# Altium footprint library MECHaniParts.PcbLib: 30 footprints (part 1 of 2)
Each footprint in its own frame and in the unit in brackets; x right, y up, seen from the top. Pads: shape width x height; smd on the part's side, far side on the other; paste and mask are expansions set on the pad; w line width, h text height; cw(c..) or ccw(c..) is an arc to the next point about the centre after c.
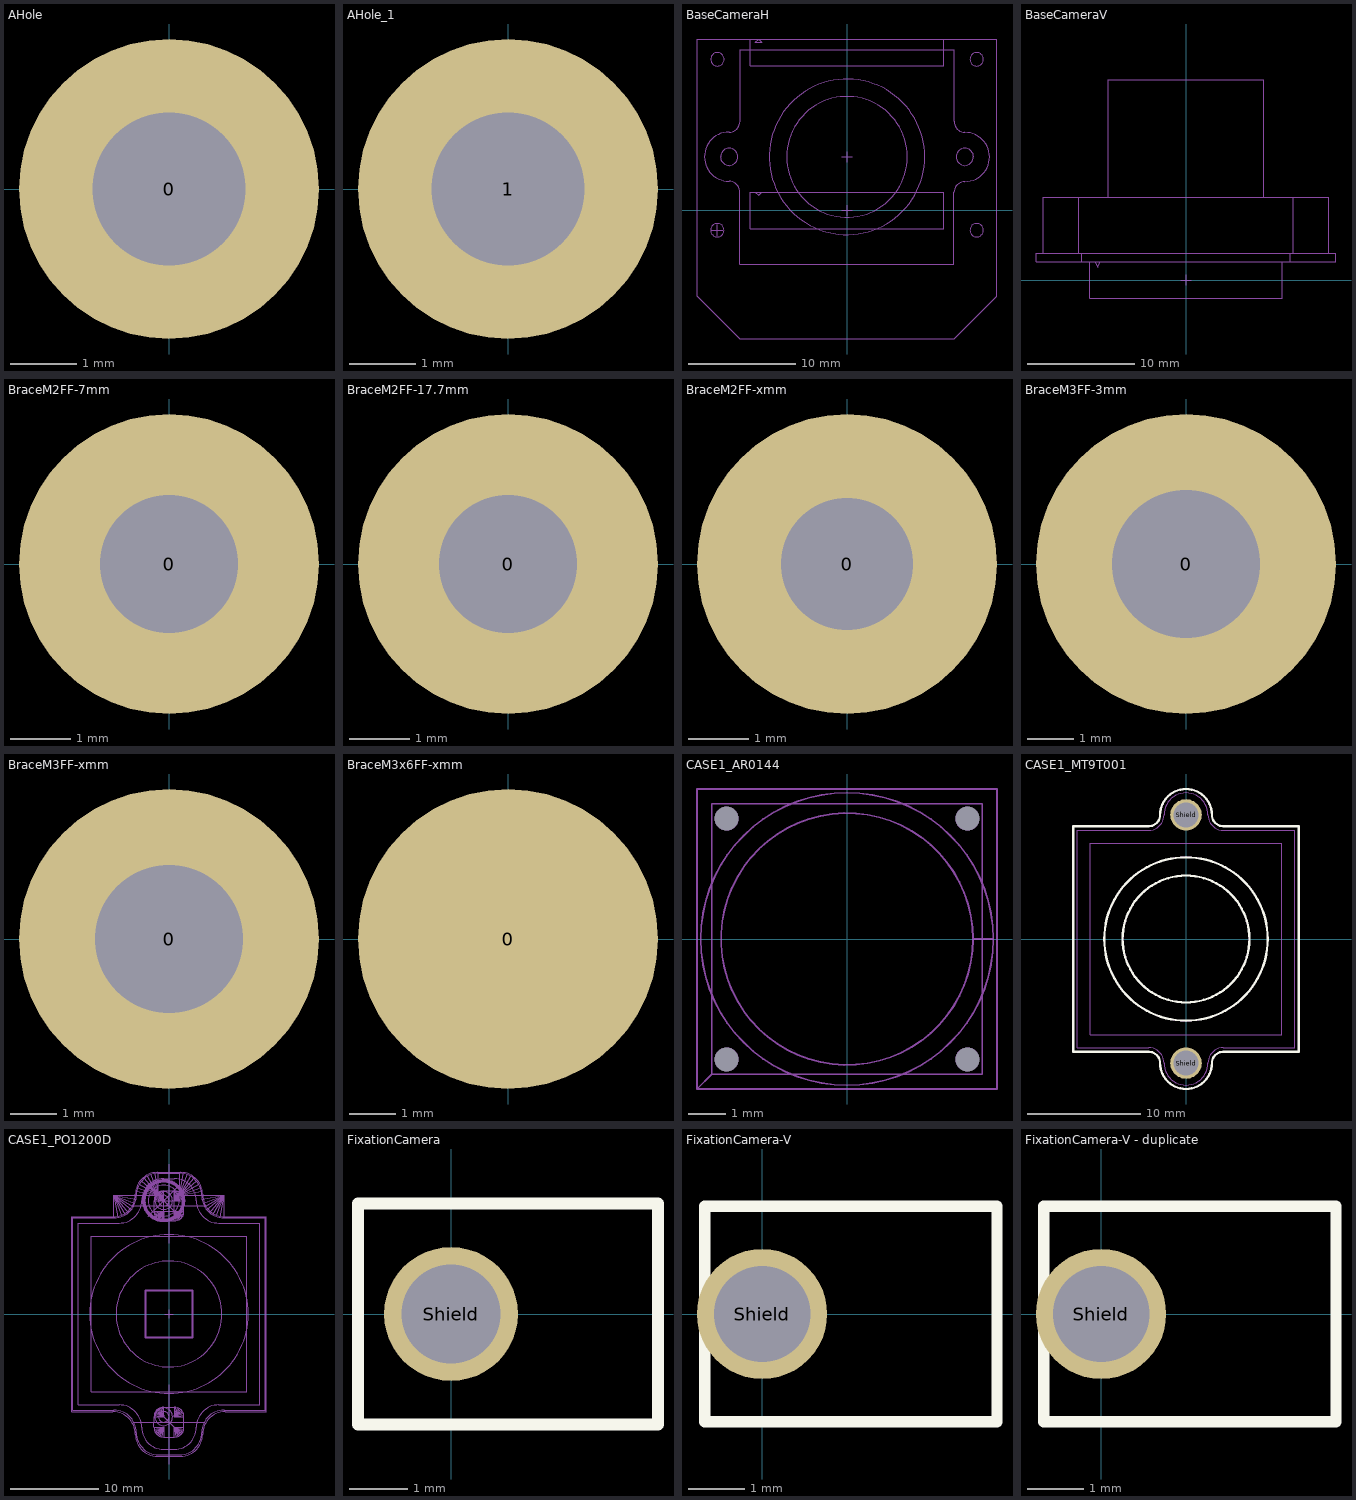
[diagram p0: the footprints below, top view; thin cyan lines are the x and y axes]

## AHole [mm] "Hole : all parameters will be defined in the PCB"
pads (1):
  round 4.5 / inner round 4.5 / far side round 2.7 hole 2.3: 0(0,0)
3D body: height 0, standoff 0, extent -0.3,-0.3 0.3,0.3

## AHole_1 [mm] "Hole : all parameters will be defined in the PCB; pin number 1 instead of 0"
pads (1):
  round 4.5 / inner round 4.5 / far side round 2.7 hole 2.3: 1(0,0)
3D body: height 0, standoff 0, extent -0.3,-0.3 0.3,0.3

## BaseCameraH [mm] "MT9T001 Micron Camera with optic on the BaseCamera pcb, horizontal use"
height 16.2
Note:
  circle w0.1: c0,5 r7.261
  circle w0.1: c0,5 r5.637
  lines w0.1: -13.311,5 cw(c-11,5) -11,7.311 ; -13.3,5 ccw(c-11.009,5.009) -11,2.717 cw(c-11.009,1.709) -10,1.7 -10,-5 9.966,-5 9.983,-4.983 9.983,1.7 cw(c10.994,1.686) 11.009,2.698 ; -12.6,-1.845 -12.1,-1.845 ; -12.1,-2.345 -12.1,-1.845 ; -12.1,-1.345 -12.1,-1.845 ; -11.81,5 ccw(c-11.005,5.005) -11,4.2 ; -11.8,5 cw(c-10.998,5.005) -11.003,5.807 cw(c-11.002,4.998) -10.193,5 ; -11.6,-1.845 -12.1,-1.845 ; -11.009,7.302 ccw(c-10.994,8.314) -9.983,8.3 -9.983,14.983 -9.966,15 10,15 10,8.3 ccw(c11.009,8.291) 11,7.283 cw(c11.009,4.991) 13.3,5 ; -11,4.193 ccw(c-11.003,4.997) -10.2,5 ; -8.555,1.715 -8.255,1.415 -7.955,1.715 ; -0.5,0 0,0 ; -0.5,5 0,5 ; 0,-0.5 0,0 ; 0,0.5 0,0 ; 0,4.5 0,5 ; 0,5.5 0,5 ; 0.5,0 0,0 ; 0.5,5 0,5 ; 10.193,5 ccw(c11.002,5.002) 11.003,4.193 ccw(c10.998,4.995) 11.8,5 ; 10.2,5 cw(c11.003,5.003) 11,5.807 ; 11,2.689 ccw(c11,5) 13.311,5 ; 11,5.8 cw(c11.005,4.995) 11.81,5 ; -14,-8 -14,16 14,16 14,-8 10,-12 -10,-12 -14,-8 ; -12.725,-1.845 cw(c-12.1,-1.845) -12.1,-1.22 cw(c-12.1,-1.845) -11.475,-1.845 cw(c-12.1,-1.845) -12.1,-2.47 cw(c-12.1,-1.845) -12.725,-1.845 ; -12.718,14.1 ccw(c-12.093,14.1) -12.093,13.475 ccw(c-12.093,14.1) -11.468,14.1 ccw(c-12.093,14.1) -12.093,14.725 ccw(c-12.093,14.1) -12.718,14.1 ; -9.015,-1.715 -9.015,1.715 9.015,1.715 9.015,-1.715 -9.015,-1.715 ; -9.015,13.486 -9.015,15.996 9.015,15.996 9.015,13.486 -9.015,13.486 ; -8.555,15.696 -8.255,15.996 -7.955,15.696 -8.555,15.696 ; 11.475,-1.845 ccw(c12.1,-1.845) 12.1,-2.47 ccw(c12.1,-1.845) 12.725,-1.845 ccw(c12.1,-1.845) 12.1,-1.22 ccw(c12.1,-1.845) 11.475,-1.845 ; 11.475,14.1 cw(c12.1,14.1) 12.1,14.725 cw(c12.1,14.1) 12.725,14.1 cw(c12.1,14.1) 12.1,13.475 cw(c12.1,14.1) 11.475,14.1
3D body "BaseCameraWithoutSocket.step": height 22.17, standoff 0.32, extent -14,-12 14,17.906

## BaseCameraV [mm] "MT9T001 Micron Camera with optic on the BaseCamera pcb, vertical use"
height 16.2
Note:
  lines w0.1: -13.311,2.516 -13.311,7.716 13.311,7.716 13.311,2.516 ; -10,2.516 -10,7.716 ; -9.75,1.715 -9.75,2.516 ; -9,1.715 -9,-1.715 9,-1.715 9,1.715 ; -8.5,1.715 -8.25,1.215 -8,1.715 ; -7.26,7.716 -7.26,18.716 7.25,18.716 ; 7.26,7.716 7.26,18.716 ; 9.75,1.715 9.75,2.516 ; 10,2.516 10,7.716 ; -14,1.715 -14,2.516 14,2.516 14,1.715 -14,1.715
TopCourtyard:
  lines w0.1: -0.5,0 0,0 ; 0,-0.5 0,0 ; 0,0.5 0,0 ; 0.5,0 0,0
3D body "BaseCameraWithoutSocket.step": height 30.25, standoff 0.34, extent -14,-3.14 14,18.716

## BraceM2FF-7mm [mm]
height 7
pads (1):
  round 5 hole 2.3: 0(0,0)
3D body: height 7, standoff 0, extent -2.5,-2.165 2.5,2.165

## BraceM2FF-17.7mm [mm]
height 17.7
pads (1):
  round 5 hole 2.3: 0(0,0)
3D body: height 17.7, standoff 0, extent -2.5,-2.165 2.5,2.165

## BraceM2FF-xmm [mm] "Brace M2 FF - x mm (default 5mm). Adjust the heigth by editing the 3D body"
height 5
pads (1):
  round 5 / inner round 5 / far side round 2.6 hole 2.2: 0(0,0)
3D body: height 7, standoff 0, extent -2.5,-2.165 2.5,2.165

## BraceM3FF-3mm [mm] "Brace M3 FF - 3 mm"
height 3
pads (1):
  round 6.5 / inner round 6.5 / far side round 3.6 hole 3.2: 0(0,0)
3D body: height 3, standoff 0, extent -2.887,-2.5 2.887,2.5

## BraceM3FF-xmm [mm] "Brace M3 FF - x mm (default 5mm). Adjust the heigth by editing the 3D body"
height 5
pads (1):
  round 6.5 / inner round 6.5 / far side round 3.6 hole 3.2: 0(0,0)
3D body: height 3, standoff 0, extent -2.887,-2.5 2.887,2.5

## BraceM3x6FF-xmm [mm] "Cylindrical 6mm Brace M3 FF - x mm (default 10mm). Adjust the heigth by editing the 3D body"
height 10
pads (1):
  round 6.5 smd: 0(0,0)
3D body "EntretoiseM3x10FF.STEP": height 10, standoff 0, extent -3,-3 3,3

## CASE1_AR0144 [mm] "Case for AR0144 OnSemi Camera"
height 16.2
pads (4):
  round 0 hole 0.65 unplated mask+0.35: H11(-3.25,-3.25) H11(-3.25,3.25) H11(3.25,-3.25) H11(3.25,3.25)
TopBody:
  circle w0.05: c-3.25,3.25 r0.3
  circle w0.05: c3.25,3.25 r0.3
  circle w0.05: c-3.25,-3.25 r0.3
  circle w0.05: c3.25,-3.25 r0.3
  lines w0.05: -4.05,-4.05 -3.65,-3.65 ; -4.05,-4.05 4.05,-4.05 4.05,4.05 -4.05,4.05 -4.05,-4.05 ; -3.65,-3.65 3.65,-3.65 3.65,3.65 -3.65,3.65 -3.65,-3.65
TopCourtyard:
  circle w0.05: c0,0 r3.95
  circle w0.05: c0,0 r3.4
  lines w0.05: 3.4,0 3.95,0 ; 4.05,-4.05 -4.05,-4.05 -4.05,4.05 4.05,4.05
3D body: height 2, standoff 0, extent -4.049,-4.049 4.049,4.049
3D body: height 3.7, standoff 1.3, extent -3.949,-3.949 3.949,3.949
3D body: height 2, standoff 1.3, extent -4.049,-4.049 4.049,4.049
3D body: height 2, standoff -0.8, extent -3.549,2.951 -2.951,3.549
3D body: height 2, standoff -0.8, extent -3.549,-3.549 -2.951,-2.951
3D body: height 2, standoff -0.8, extent 2.951,2.951 3.549,3.549
3D body: height 2, standoff -0.8, extent 2.951,-3.549 3.549,-2.951

## CASE1_MT9T001 [mm] "Case for MT9T001 Micron Camera"
height 16.2
pads (2):
  round 2.8 / inner round 2.8 / far side round 3.2 hole 2.2: Shield(0,-11) Shield(0,11)
Top Overlay:
  lines w0.2: -10,-10 -3.3,-10 cw(c-3.3,-11) -2.3,-11 ccw(c0,-11) 0,-13.3 ccw(c0,-11) 2.3,-11 cw(c3.3,-11) 3.3,-10 10,-10 10,10 3.3,10 cw(c3.3,11) 2.3,11 ccw(c0,11) 0,13.3 ccw(c0,11) -2.3,11 cw(c-3.3,11) -3.3,10 -10,10 -10,-10 ; -7.25,0 cw(c0,0) 0,7.25 cw(c0,0) 7.25,0 cw(c0,0) 0,-7.25 cw(c0,0) -7.25,0 ; -5.625,0 cw(c0,0) 0,5.625 cw(c0,0) 5.625,0 cw(c0,0) 0,-5.625 cw(c0,0) -5.625,0 ; -0.8,-11 cw(c0,-11) 0,-10.2 cw(c0,-11) 0.8,-11 cw(c0,-11) 0,-11.8 cw(c0,-11) -0.8,-11 ; -0.8,11 cw(c0,11) 0,11.8 cw(c0,11) 0.8,11 cw(c0,11) 0,10.2 cw(c0,11) -0.8,11
Note:
  lines w0.1: -9.65,-9.65 -3.3,-9.65 cw(c-3.3,-11) -1.95,-11 ccw(c0,-11) 0,-12.95 ccw(c0,-11) 1.95,-11 cw(c3.3,-11) 3.3,-9.65 9.65,-9.65 9.65,9.65 3.3,9.65 cw(c3.3,11) 1.95,11 ccw(c0,11) 0,12.95 ccw(c0,11) -1.95,11 cw(c-3.3,11) -3.3,9.65 -9.65,9.65 -9.65,-9.65
TopBody:
  lines w0.1: -10,-10 -10,10 -3.3,10 ccw(c-3.3,11) -2.3,11 cw(c0,11) 0,13.3 cw(c0,11) 2.3,11 ccw(c3.3,11) 3.3,10 10,10 10,-10 3.3,-10 ccw(c3.3,-11) 2.3,-11 cw(c0,-11) 0,-13.3 cw(c0,-11) -2.3,-11 ccw(c-3.3,-11) -3.3,-10 -10,-10 ; -8.5,-8.5 8.5,-8.5 8.5,8.5 -8.5,8.5 -8.5,-8.5 ; -7.25,0 cw(c0,0) 0,7.25 cw(c0,0) 7.25,0 cw(c0,0) 0,-7.25 cw(c0,0) -7.25,0 ; -5.625,0 cw(c0,0) 0,5.625 cw(c0,0) 5.625,0 cw(c0,0) 0,-5.625 cw(c0,0) -5.625,0 ; -0.8,-11 cw(c0,-11) 0,-10.2 cw(c0,-11) 0.8,-11 cw(c0,-11) 0,-11.8 cw(c0,-11) -0.8,-11 ; -0.8,11 cw(c0,11) 0,11.8 cw(c0,11) 0.8,11 cw(c0,11) 0,10.2 cw(c0,11) -0.8,11
3D body "lentille_dsl935.stp": height 17.35, standoff 8.6, extent -6,-6 6,6
3D body "sup_cam_sunex_cmt103_16mm.stp": height 16.2, standoff 0, extent -10,-13.3 10,13.3

## CASE1_PO1200D [mm] "Case for PO1200D PixelPlus Camera"
height 15
Bottom Paste:
  lines w0.05: -6.25,-10.9 -6.25,-13.45 ; -5.807,-10.939 -6.25,-13.45 ; -5.378,-11.054 -6.25,-13.45 ; -4.975,-11.242 -6.25,-13.45 ; -4.611,-11.497 -6.25,-13.45 ; -4.297,-11.811 -6.25,-13.45 ; -4.042,-12.175 -6.25,-13.45 ; -3.854,-12.578 -6.25,-13.45 ; -3.739,-13.007 -6.25,-13.45 ; -3.662,-13.884 -1.2,-13.45 ; -3.549,-14.305 -1.2,-13.45 ; -3.365,-14.7 -1.2,-13.45 ; -3.115,-15.057 -1.2,-13.45 ; -2.807,-15.365 -1.2,-13.45 ; -2.45,-15.615 -1.2,-13.45 ; -2.055,-15.799 -1.2,-13.45 ; -1.634,-15.912 -1.2,-13.45 ; -1.2,-15.95 -1.2,-13.45 ; 1.2,-15.95 1.2,-13.45 ; 1.634,-15.912 1.2,-13.45 ; 2.055,-15.799 1.2,-13.45 ; 2.45,-15.615 1.2,-13.45 ; 2.807,-15.365 1.2,-13.45 ; 3.115,-15.057 1.2,-13.45 ; 3.365,-14.7 1.2,-13.45 ; 3.549,-14.305 1.2,-13.45 ; 3.662,-13.884 1.2,-13.45 ; 3.739,-13.007 6.25,-13.45 ; 3.854,-12.578 6.25,-13.45 ; 4.042,-12.175 6.25,-13.45 ; 4.297,-11.811 6.25,-13.45 ; 4.611,-11.497 6.25,-13.45 ; 4.975,-11.242 6.25,-13.45 ; 5.378,-11.054 6.25,-13.45 ; 5.807,-10.939 6.25,-13.45 ; 6.25,-10.9 6.25,-13.45 ; -6.25,-13.45 -3.7,-13.45 -1.2,-13.45 ; 1.2,-13.45 3.7,-13.45 6.25,-13.45
Note:
  drawing of 191 lines, arcs and shapes, not listed
TopBody:
  circle w0.1: c0,0 r6
  circle w0.1: c0,0 r9
  lines w0.1: -10.9,-10.9 -6.25,-10.9 cw(c-6.25,-13.45) -3.7,-13.45 ccw(c-1.2,-13.45) -1.2,-15.95 1.2,-15.95 ccw(c1.2,-13.45) 3.7,-13.45 cw(c6.25,-13.45) 6.25,-10.9 10.9,-10.9 10.9,10.9 6.25,10.9 cw(c6.25,13.45) 3.7,13.45 ccw(c1.2,13.45) 1.2,15.95 -1.2,15.95 ccw(c-1.2,13.45) -3.7,13.45 cw(c-6.25,13.45) -6.25,10.9 -10.9,10.9 -10.9,-10.9 ; -10.3,-10.3 -5.65,-10.3 cw(c-5.65,-12.85) -3.1,-12.85 ccw(c-0.6,-12.85) -0.6,-15.35 0.6,-15.35 ccw(c0.6,-12.85) 3.1,-12.85 cw(c5.65,-12.85) 5.65,-10.3 10.3,-10.3 10.3,10.3 5.65,10.3 cw(c5.65,12.85) 3.1,12.85 ccw(c0.6,12.85) 0.6,15.35 -0.6,15.35 ccw(c-0.6,12.85) -3.1,12.85 cw(c-5.65,12.85) -5.65,10.3 -10.3,10.3 -10.3,-10.3 ; -8.8,-8.8 8.8,-8.8 8.8,8.8 -8.8,8.8 -8.8,-8.8 ; -1.7,-12.85 ccw(c-0.6,-12.85) -0.6,-13.95 0.6,-13.95 ccw(c0.6,-12.85) 1.7,-12.85 1.7,-11.65 ccw(c0.6,-11.65) 0.6,-10.55 -0.6,-10.55 ccw(c-0.6,-11.65) -1.7,-11.65 -1.7,-12.85 ; -1.7,11.65 ccw(c-0.6,11.65) -0.6,10.55 0.6,10.55 ccw(c0.6,11.65) 1.7,11.65 1.7,12.85 ccw(c0.6,12.85) 0.6,13.95 -0.6,13.95 ccw(c-0.6,12.85) -1.7,12.85 -1.7,11.65
  text ".Designator" at -0.825,-0.175 h0.5
TopCourtyard:
  lines w0.05: -0.5,0 0.5,0 ; 0,-0.5 0,0.5 ; -11,-11.08 -6.35,-11.08 cw(c-6.35,-13.63) -3.8,-13.63 ccw(c-1.3,-13.63) -1.3,-16.13 1.3,-16.13 ccw(c1.3,-13.63) 3.8,-13.63 cw(c6.35,-13.63) 6.35,-11.08 11,-11.08 11,11 6.35,11 cw(c6.35,13.55) 3.8,13.55 ccw(c1.3,13.55) 1.3,16.05 -1.3,16.05 ccw(c-1.3,13.55) -3.8,13.55 cw(c-6.35,13.55) -6.35,11 -11,11 -11,-11.08
3D body: height 10, standoff 0, extent 0,-15.95 10.9,15.95
3D body: height 10, standoff 0, extent -10.9,-15.95 0,15.95
3D body: height 17, standoff 10, extent -9,-9 9,9
3D body: height 10, standoff 8.5, extent -10.9,-15.95 0,15.95
3D body: height 17.7, standoff 15, extent -5.5,-5.5 5.5,5.5
3D body: height 10, standoff 8.5, extent 0,-15.95 10.9,15.95

## FixationCamera [mm] "Socket for the fixation of the camera pcb"
height 5.16
pads (1):
  round 2.3 / inner round 2.3 / far side round 3.2 hole 1.7: Shield(0,0)
Top Overlay:
  lines w0.2: -1.6,-1.9 3.56,-1.9 3.56,1.9 -1.6,1.9 -1.6,-1.9 ; -0.625,0 ccw(c0,0) 0,-0.625 ccw(c0,0) 0.625,0 ccw(c0,0) 0,0.625 ccw(c0,0) -0.625,0
TopBody:
  lines w0.1: -1.6,-1.9 3.56,-1.9 3.56,1.9 -1.6,1.9 -1.6,-1.9 ; -0.625,0 ccw(c0,0) 0,-0.625 ccw(c0,0) 0.625,0 ccw(c0,0) 0,0.625 ccw(c0,0) -0.625,0
3D body: height 5.16, standoff 0, extent -1.6,0 3.56,1.9
3D body: height 5.16, standoff 0, extent -1.6,-1.9 3.56,0

## FixationCamera-V [mm] "Socket for the vertical fixation of the camera pcb"
height 5.16
pads (1):
  round 2.3 / inner round 2.3 / far side round 3.2 hole 1.7: Shield(0,0)
Top Overlay:
  lines w0.2: -1.012,-1.9 -1.012,1.9 4.148,1.9 4.148,-1.9 -1.012,-1.9 ; -0.625,0 cw(c0,0) 0,0.625 cw(c0,0) 0.625,0 cw(c0,0) 0,-0.625 cw(c0,0) -0.625,0
TopBody:
  lines w0.1: -1.012,-1.9 -1.012,1.9 4.148,1.9 4.148,-1.9 -1.012,-1.9 ; -0.625,0 cw(c0,0) 0,0.625 cw(c0,0) 0.625,0 cw(c0,0) 0,-0.625 cw(c0,0) -0.625,0
3D body: height 5.16, standoff 0, extent -1.012,-1.9 4.148,0
3D body: height 5.16, standoff 0, extent -1.012,0 4.148,1.9

## FixationCamera-V - duplicate [mm] "Socket for the vertical fixation of the camera pcb"
height 5.16
pads (1):
  round 2.3 / inner round 2.3 / far side round 3.2 hole 1.7: Shield(0,0)
Top Overlay:
  lines w0.2: -1.012,-1.9 4.148,-1.9 4.148,1.9 -1.012,1.9 -1.012,-1.9 ; -0.625,0 ccw(c0,0) 0,-0.625 ccw(c0,0) 0.625,0 ccw(c0,0) 0,0.625 ccw(c0,0) -0.625,0
TopBody:
  lines w0.1: -1.012,-1.9 4.148,-1.9 4.148,1.9 -1.012,1.9 -1.012,-1.9 ; -0.625,0 ccw(c0,0) 0,-0.625 ccw(c0,0) 0.625,0 ccw(c0,0) 0,0.625 ccw(c0,0) -0.625,0
3D body: height 5.16, standoff 0, extent -1.012,0 4.148,1.9
3D body: height 5.16, standoff 0, extent -1.012,-1.9 4.148,0